# EAGLE library part VL6180X (library st-vl-sensor)
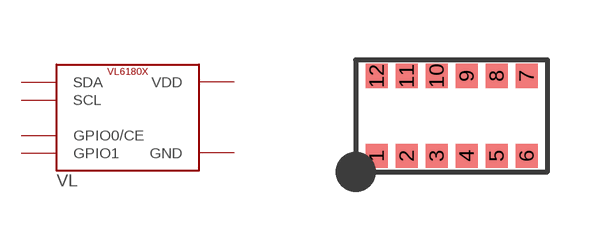
[diagram p0: symbol with the pads of VL6180X; footprint VL6180X]

Designator prefix VL

## VL6180X (MANF: VL6180XV0NR/1; MOUSER: 511-VL6180XV0NR/1)  [VL6180X]
1  GPIO1
4  GPIO0/CE
5  SCL
6  SDA
8  VDD
9  GND
10  VDD
12  GND

## Footprint VL6180X (pad centres in mm)
smd 0.55 x 0.6: 1 -1.875,-1; 2 -1.125,-1; 3 -0.375,-1; 4 0.375,-1; 5 1.125,-1; 6 1.875,-1; 7 1.875,1; 8 1.125,1; 9 0.375,1; 10 -0.375,1; 11 -1.125,1; 12 -1.875,1